# Altium schematic symbol library SparkfunBOB.SchLib: 1 symbol
Pins are listed as number, name and electrical type; pins without a type are passive.

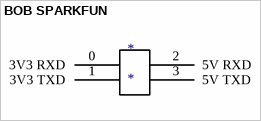
[diagram p0: symbol BOB SPARKFUN]

## BOB SPARKFUN
designator *
pins: 0 3V3 RXD, 1 3V3 TXD, 2 5V RXD, 3 5V TXD